# EAGLE library part WE-LAN_AQ_749012310 (library Wurth_Signal & Communications_WE-LAN_AQ)
WE-LAN AQ Transformer 10/100 Base-T Characteristics 100 % automatic production Ethernet with speeds up to 1 Gbit/s Low profile height of 4 mm Improved Return Loss and Crosstalk properties Improved solderability and AOI inspection due to half-vias with gold plating Compatible with existing LAN products Applications Suitable for industrial temperatures from –40 °C up to +85 °C Compatible to Industrial Ethernet systems like EtherCAT or Profinet Compliant with most IC’s for Ethernet applications such as Microchip, Texas Instruments, Broadcom, Linear Technology Hubs, Routers, Switches, IP cameras, IoT applications <https://www.we-online.com/catalog/media/o97650v209%20Family_WE-LAN%20AQ_10_100_1000BaseT.jpg> Details see: https://www.we-online.com/catalog/en/WE-LANAQ Created by Ella Wu 2020-10-26 2020 (C) Würth Elektronik
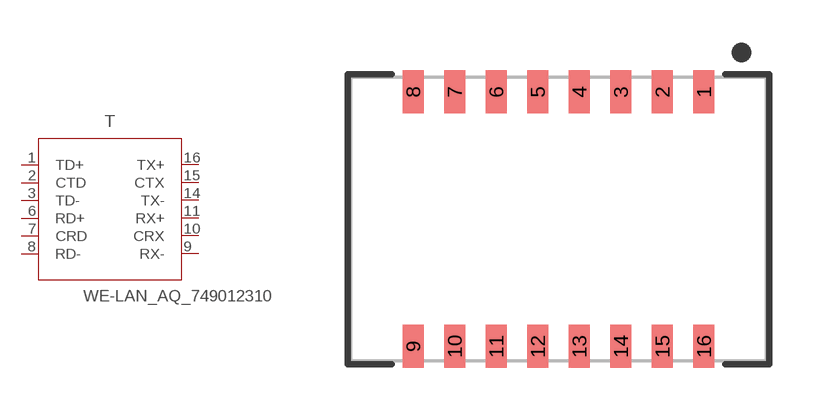
[diagram p3: symbol with the pads of WE-LANAQ_749012310; footprint WE-LANAQ_749012310]

Designator prefix T

## WE-LAN_AQ_749012310 (DATA-RATE: 10/100 Base-T; DATASHEET-URL: https://www.we-online.com/catalog/datasheet/749012310.pdf; L: 150uH; MOUNT: SMT; PART-NUMBER: 749012310; POE: PoE+ (up to 720 mA); PORTS: 1; VALUE: 749012310; VT: 1500 V (RMS))  [WE-LANAQ_749012310]
1  TD+
2  CTD
3  TD-
6  RD+
7  CRD
8  RD-
9  RX-
10  CRX
11  RX+
14  TX-
15  CTX
16  TX+

## Footprint WE-LANAQ_749012310 (pad centres in mm)
WE-LAN AQ Transformer 10/100 Base-T
smd 0.64 x 1.32: 1 4.445,3.89; 2 3.175,3.89; 3 1.905,3.89; 4 0.635,3.89; 5 -0.635,3.89; 6 -1.905,3.89; 7 -3.175,3.89; 8 -4.445,3.89; 9 -4.445,-3.89; 10 -3.175,-3.89; 11 -1.905,-3.89; 12 -0.635,-3.89; 13 0.635,-3.89; 14 1.905,-3.89; 15 3.175,-3.89; 16 4.445,-3.89